# Altium schematic symbol library 74LVC1T45.SchLib: 1 symbol
Pins are listed as number, name and electrical type; pins without a type are passive.

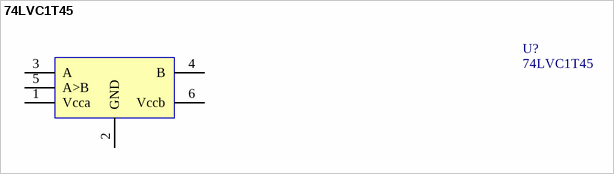
[diagram p0: symbol 74LVC1T45]

## 74LVC1T45
designator U?
IC, Translator
pins: 1 Vcca, 2 GND, 3 A, 4 B, 5 A>B, 6 Vccb